# EAGLE library part DS1882 (library DS1882_digipot)
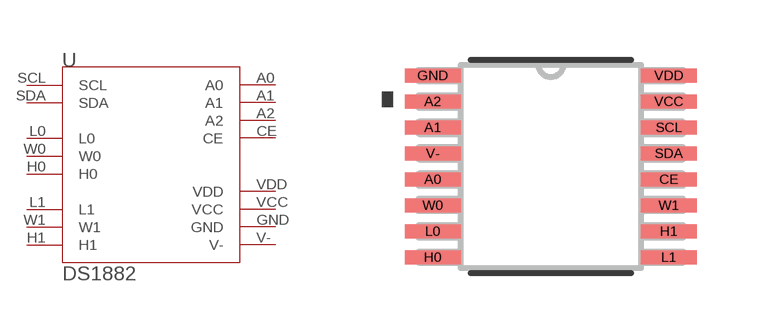
[diagram p0: symbol with the pads of TSSOP-16; footprint TSSOP-16]

Designator prefix -

## DS1882  [TSSOP-16]
A0  A0
A1  A1
A2  A2
CE  CE
GND  GND  pas
H0  H0
H1  H1
L0  L0
L1  L1
SCL  SCL
SDA  SDA
V-  V-  pas
VCC  VCC  pwr
VDD  VDD  pwr
W0  W0
W1  W1

## Footprint TSSOP-16 (pad centres in mm)
smd 1.406 x 0.351: A0 -2.953,-0.325; A1 -2.953,0.975; A2 -2.953,1.625; CE 2.953,-0.325; GND -2.953,2.275; H0 -2.953,-2.275; H1 2.953,-1.625; L0 -2.953,-1.625; L1 2.953,-2.275; SCL 2.953,0.975; SDA 2.953,0.325; V- -2.953,0.325; VCC 2.953,1.625; VDD 2.953,2.275; W0 -2.953,-0.975; W1 2.953,-0.975